# Altium footprint library Drivers.PcbLib: 19 footprints (part 2 of 2)
Each footprint in its own frame and in the unit in brackets; x right, y up, seen from the top. Pads: shape width x height; smd on the part's side, far side on the other; paste and mask are expansions set on the pad; w line width, h text height; cw(c..) or ccw(c..) is an arc to the next point about the centre after c.
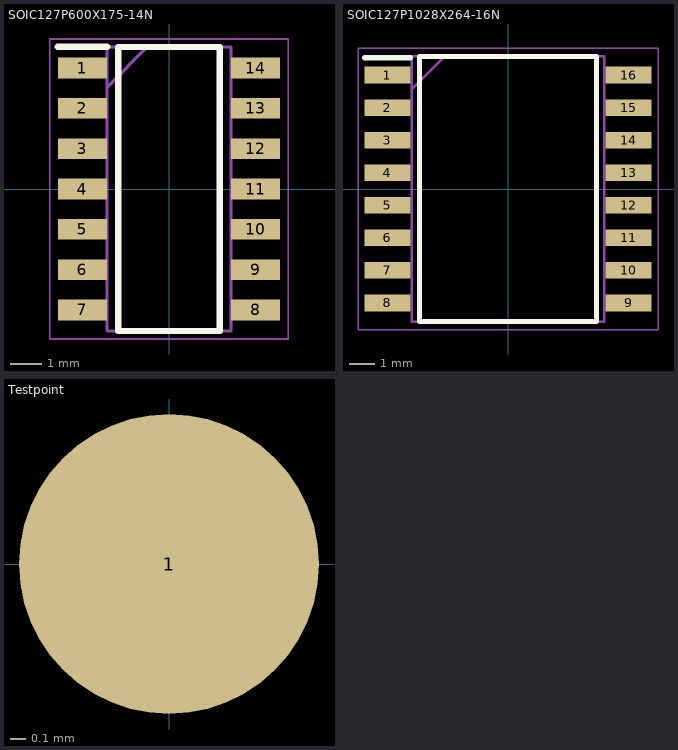
[diagram p1: the footprints below, top view; thin cyan lines are the x and y axes]

## SOIC127P600X175-14N [mm]
height 6.86
pads (14):
  rect 1.55x0.65 smd: 1(-2.725,3.81) 2(-2.725,2.54) 3(-2.725,1.27) 4(-2.725,0) 5(-2.725,-1.27) 6(-2.725,-2.54) 7(-2.725,-3.81) 8(2.725,-3.81) 9(2.725,-2.54) 10(2.725,-1.27) 11(2.725,0) 12(2.725,1.27) 13(2.725,2.54) 14(2.725,3.81)
Top Overlay:
  lines w0.2: -3.5,4.485 -1.95,4.485 ; -1.6,-4.475 1.6,-4.475 1.6,4.475 -1.6,4.475 -1.6,-4.475
Mechanical 13:
  lines w0.1: -1.95,3.205 -0.68,4.475 ; -1.95,-4.475 1.95,-4.475 1.95,4.475 -1.95,4.475 -1.95,-4.475
Mechanical 15:
  lines w0.05: -3.75,-4.725 3.75,-4.725 3.75,4.725 -3.75,4.725 -3.75,-4.725
3D body "74HC14D.stp": height 1.75, standoff 0, extent -3,-4.475 3,4.475

## SOIC127P1028X264-16N [mm]
height 6.86
pads (16):
  rect 1.8x0.65 smd: 1(-4.7,4.445) 2(-4.7,3.175) 3(-4.7,1.905) 4(-4.7,0.635) 5(-4.7,-0.635) 6(-4.7,-1.905) 7(-4.7,-3.175) 8(-4.7,-4.445) 9(4.7,-4.445) 10(4.7,-3.175) 11(4.7,-1.905) 12(4.7,-0.635) 13(4.7,0.635) 14(4.7,1.905) 15(4.7,3.175) 16(4.7,4.445)
Top Overlay:
  lines w0.2: -5.6,5.12 -3.8,5.12 ; -3.45,-5.17 3.45,-5.17 3.45,5.17 -3.45,5.17 -3.45,-5.17
Mechanical 13:
  lines w0.1: -3.752,3.9 -2.482,5.17 ; -3.752,-5.17 3.752,-5.17 3.752,5.17 -3.752,5.17 -3.752,-5.17
Mechanical 15:
  lines w0.05: -5.85,-5.485 5.85,-5.485 5.85,5.485 -5.85,5.485 -5.85,-5.485
3D body "1ED020I12-B2.stp": height 2.64, standoff 0, extent -5.142,-5.17 5.142,5.17

## Testpoint [mm]
height 6.86
pads (1):
  round 2 smd: 1(0,0)